# EAGLE library part 00SPEEDY_EFD25_SMD_12PIN (library Wurth Electronics Midcom Inc V1-0)
Package Style: Speedy EFD25 Mounting: SMD Pins: 12 pins Bobbin: 070-4476 Best pinouts for production vary per application. Please contact Wurth Electronics Midcom, Inc. for assistance with your custom design. Website: Wurth Electronics Midcom <http://www.we-online.com/midcom> Contact us Wurth Electronics Midcom, Inc. 121 Airport Dr. Watertown, SD 57201 Phone: (605) 886-4385 Fax: (605) 886-4486 E-Mail: midcom@we-online.com
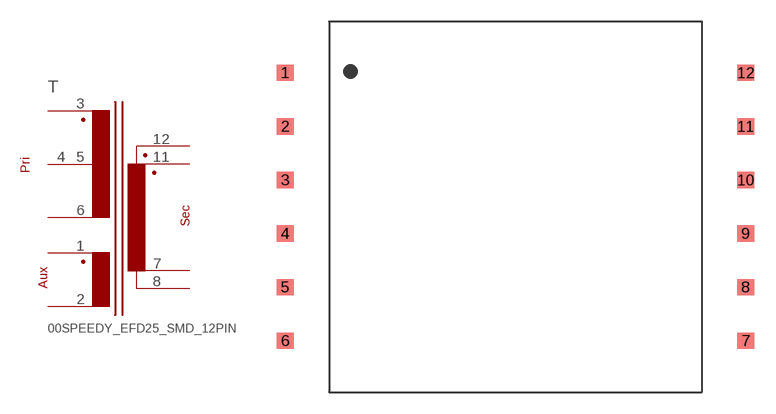
[diagram p116: symbol with the pads of 00SPEEDY_EFD25_SMD_12PIN; footprint 00SPEEDY_EFD25_SMD_12PIN]

Designator prefix T

## 00SPEEDY_EFD25_SMD_12PIN  [00SPEEDY_EFD25_SMD_12PIN]
1  5  pas
2  6  pas
3  1  pas
4  3  pas
5  2  pas
6  4  pas
7  10  pas
8  8  pas
11  9  pas
12  7  pas

## Footprint 00SPEEDY_EFD25_SMD_12PIN (pad centres in mm)
Package Style: Speedy EFD25 Mounting: SMD Pins: 12 pins Bobbin: 070-4476
smd 1.168 x 1.143: 1 -16.154,9.398; 2 -16.154,5.639; 3 -16.154,1.88; 4 -16.154,-1.88; 5 -16.154,-5.639; 6 -16.154,-9.398; 7 16.154,-9.398; 8 16.154,-5.639; 9 16.154,-1.88; 10 16.154,1.88; 11 16.154,5.639; 12 16.154,9.398